# Altium footprint library TAG_CONNECT.PcbLib: 12 footprints
Each footprint in its own frame and in the unit in brackets; x right, y up, seen from the top. Pads: shape width x height; smd on the part's side, far side on the other; paste and mask are expansions set on the pad; w line width, h text height; cw(c..) or ccw(c..) is an arc to the next point about the centre after c.
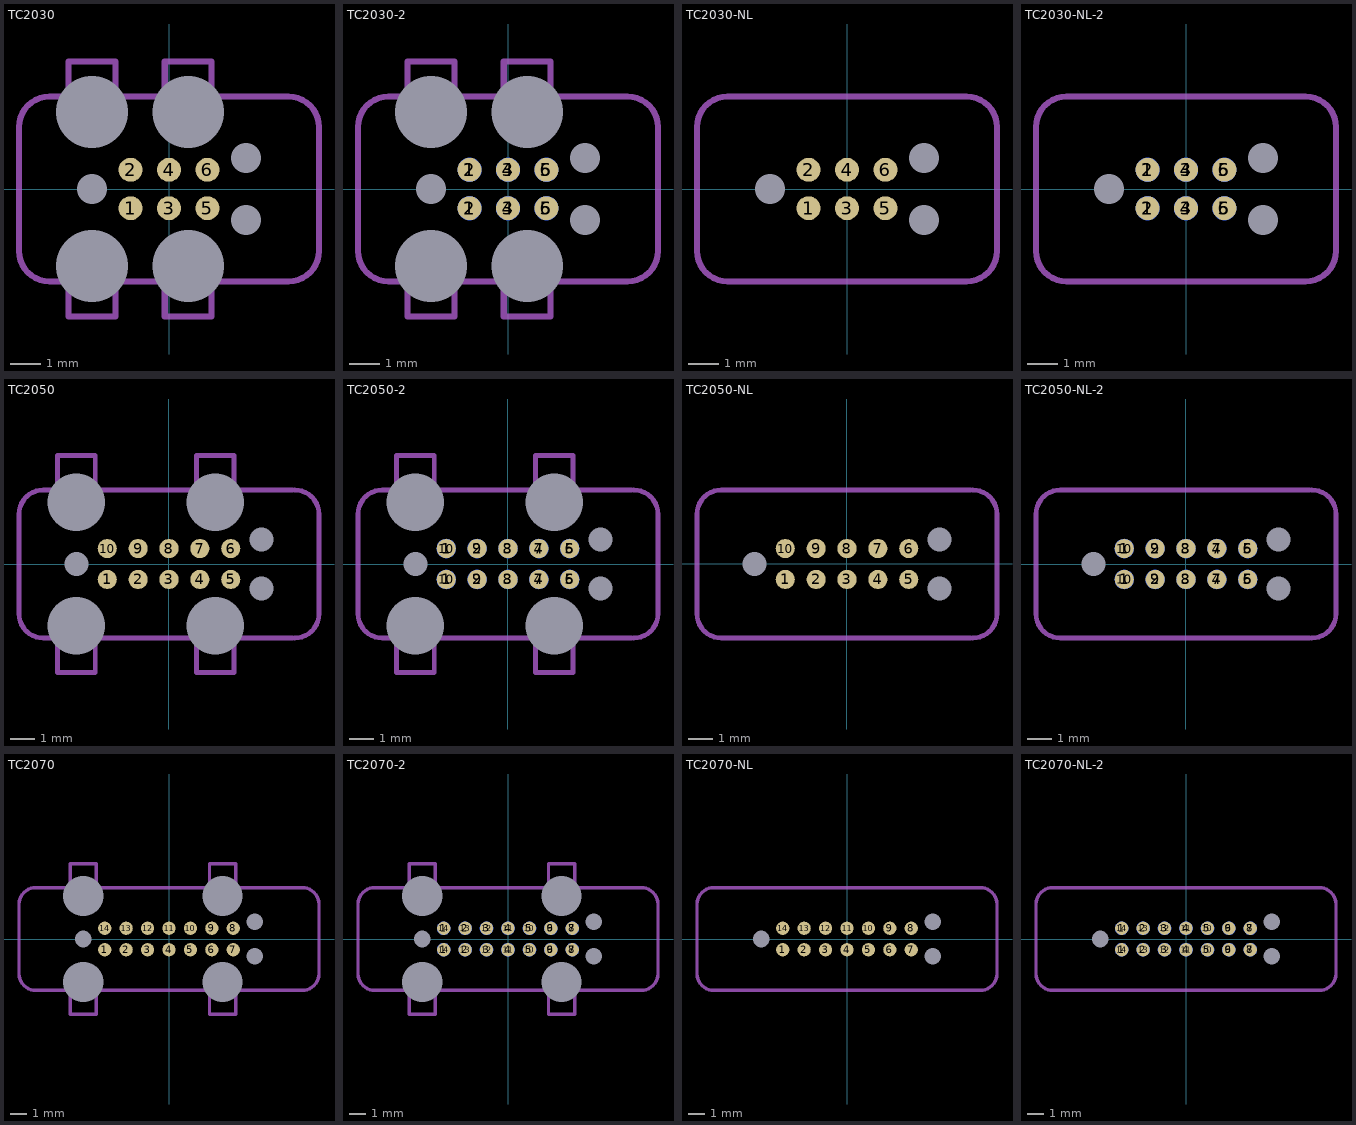
[diagram p0: the footprints below, top view; thin cyan lines are the x and y axes]

## TC2030 [mil] "Tag-Connect TC2030, 6 pin"
pads (13):
  round 31 smd paste-99999: 1(-50,-25) 2(-50,25) 3(0,-25) 4(0,25) 5(50,-25) 6(50,25)
  round 0 hole 93.5 unplated: M(-100,-100) M(-100,100) M(25,-100) M(25,100)
  round 0 hole 39 unplated: M(-100,0) M(100,-40) M(100,40)
Top Assembly:
  lines w7.87: -130.5,-120 -130.5,-166 -69.5,-166 -69.5,-120 ; -130.5,120 -130.5,166 -69.5,166 -69.5,120 ; -5.5,-120 -5.5,-166 55.5,-166 55.5,-120 ; -5.5,120 -5.5,166 55.5,166 55.5,120 ; -195,-80.63 ccw(c-155.63,-80.63) -155.63,-120 155.63,-120 ccw(c155.63,-80.63) 195,-80.63 195,80.63 ccw(c155.63,80.63) 155.63,120 -155.63,120 ccw(c-155.63,80.63) -195,80.63 -195,-80.63

## TC2030-2 [mil] "Tag-Connect TC2030, 6 pin, top and bottom"
pads (19):
  round 31 smd paste-99999: 1(-50,-25) 2(-50,25) 3(0,-25) 4(0,25) 5(50,-25) 6(50,25)
  round 31 smd far side paste-99999: 1(-50,25) 2(-50,-25) 3(0,25) 4(0,-25) 5(50,25) 6(50,-25)
  round 0 hole 93.5 unplated: M(-100,-100) M(-100,100) M(25,-100) M(25,100)
  round 0 hole 39 unplated: M(-100,0) M(100,-40) M(100,40)
Top Assembly:
  lines w7.87: -130.5,-120 -130.5,-166 -69.5,-166 -69.5,-120 ; -130.5,120 -130.5,166 -69.5,166 -69.5,120 ; -5.5,-120 -5.5,-166 55.5,-166 55.5,-120 ; -5.5,120 -5.5,166 55.5,166 55.5,120 ; -195,-80.63 ccw(c-155.63,-80.63) -155.63,-120 155.63,-120 ccw(c155.63,-80.63) 195,-80.63 195,80.63 ccw(c155.63,80.63) 155.63,120 -155.63,120 ccw(c-155.63,80.63) -195,80.63 -195,-80.63
Bottom Assembly (Mech12):
  lines w7.87: -130.5,-120 -130.5,-166 -69.5,-166 -69.5,-120 ; -130.5,120 -130.5,166 -69.5,166 -69.5,120 ; -5.5,-120 -5.5,-166 55.5,-166 55.5,-120 ; -5.5,120 -5.5,166 55.5,166 55.5,120 ; -195,-80.63 ccw(c-155.63,-80.63) -155.63,-120 155.63,-120 ccw(c155.63,-80.63) 195,-80.63 195,80.63 ccw(c155.63,80.63) 155.63,120 -155.63,120 ccw(c-155.63,80.63) -195,80.63 -195,-80.63
  text ".Designator" at 177.38,-17.84 h78.74

## TC2030-NL [mil] "Tag-Connect TC2030-NL, 6 pin, no-legs"
pads (9):
  round 31 smd paste-99999: 1(-50,-25) 2(-50,25) 3(0,-25) 4(0,25) 5(50,-25) 6(50,25)
  round 0 hole 39 unplated: M(-100,0) M(100,-40) M(100,40)
Top Assembly:
  lines w7.87: -195,-80.63 ccw(c-155.63,-80.63) -155.63,-120 155.63,-120 ccw(c155.63,-80.63) 195,-80.63 195,80.63 ccw(c155.63,80.63) 155.63,120 -155.63,120 ccw(c-155.63,80.63) -195,80.63 -195,-80.63

## TC2030-NL-2 [mil] "Tag-Connect TC2030-NL, 6 pin, no-legs, top and bottom"
pads (15):
  round 31 smd paste-99999: 1(-50,-25) 2(-50,25) 3(0,-25) 4(0,25) 5(50,-25) 6(50,25)
  round 31 smd far side paste-99999: 1(-50,25) 2(-50,-25) 3(0,25) 4(0,-25) 5(50,25) 6(50,-25)
  round 0 hole 39 unplated: M(-100,0) M(100,-40) M(100,40)
Top Assembly:
  lines w7.87: -195,-80.63 ccw(c-155.63,-80.63) -155.63,-120 155.63,-120 ccw(c155.63,-80.63) 195,-80.63 195,80.63 ccw(c155.63,80.63) 155.63,120 -155.63,120 ccw(c-155.63,80.63) -195,80.63 -195,-80.63
Bottom Assembly (Mech12):
  lines w7.87: -195,-80.63 ccw(c-155.63,-80.63) -155.63,-120 155.63,-120 ccw(c155.63,-80.63) 195,-80.63 195,80.63 ccw(c155.63,80.63) 155.63,120 -155.63,120 ccw(c-155.63,80.63) -195,80.63 -195,-80.63
  text ".Designator" at 177.38,-17.84 h78.74

## TC2050 [mil] "Tag-Connect TC2050, 10 pin"
pads (17):
  round 31 smd paste-99999: 1(-100,-25) 2(-50,-25) 3(0,-25) 4(50,-25) 5(100,-25) 6(100,25) 7(50,25) 8(0,25) 9(-50,25) 10(-100,25)
  round 0 hole 93.5 unplated: M(-150,-100) M(-150,100) M(75,-100) M(75,100)
  round 0 hole 39 unplated: M(-150,0) M(150,-40) M(150,40)
Top Assembly:
  lines w7.87: -180.5,-120 -180.5,-176 -119.5,-176 -119.5,-120 ; -180.5,120 -180.5,176 -119.5,176 -119.5,120 ; 44.5,-120 44.5,-176 105.5,-176 105.5,-120 ; 44.5,120 44.5,176 105.5,176 105.5,120 ; 200,-120 -203.54,-120 cw(c-203.54,-80.63) -242.91,-80.63 -242.91,80.63 cw(c-203.54,80.63) -203.54,120 200,120 ; 203.54,-120 ccw(c203.54,-80.63) 242.91,-80.63 242.91,80.63 ccw(c203.54,80.63) 203.54,120

## TC2050-2 [mil] "Tag-Connect TC2050, 10 pin, top and bottom"
pads (27):
  round 31 smd paste-99999: 1(-100,-25) 2(-50,-25) 3(0,-25) 4(50,-25) 5(100,-25) 6(100,25) 7(50,25) 8(0,25) 9(-50,25) 10(-100,25)
  round 31 smd far side paste-99999: 1(-100,25) 2(-50,25) 3(0,25) 4(50,25) 5(100,25) 6(100,-25) 7(50,-25) 8(0,-25) 9(-50,-25) 10(-100,-25)
  round 0 hole 93.5 unplated: M(-150,-100) M(-150,100) M(75,-100) M(75,100)
  round 0 hole 39 unplated: M(-150,0) M(150,-40) M(150,40)
Top Assembly:
  lines w7.87: -180.5,-120 -180.5,-176 -119.5,-176 -119.5,-120 ; -180.5,120 -180.5,176 -119.5,176 -119.5,120 ; 44.5,-120 44.5,-176 105.5,-176 105.5,-120 ; 44.5,120 44.5,176 105.5,176 105.5,120 ; 200,-120 -203.54,-120 cw(c-203.54,-80.63) -242.91,-80.63 -242.91,80.63 cw(c-203.54,80.63) -203.54,120 200,120 ; 203.54,-120 ccw(c203.54,-80.63) 242.91,-80.63 242.91,80.63 ccw(c203.54,80.63) 203.54,120
Bottom Assembly (Mech12):
  lines w7.87: -180.5,-120 -180.5,-176 -119.5,-176 -119.5,-120 ; -180.5,120 -180.5,176 -119.5,176 -119.5,120 ; 44.5,-120 44.5,-176 105.5,-176 105.5,-120 ; 44.5,120 44.5,176 105.5,176 105.5,120 ; 200,-120 -203.54,-120 cw(c-203.54,-80.63) -242.91,-80.63 -242.91,80.63 cw(c-203.54,80.63) -203.54,120 200,120 ; 203.54,-120 ccw(c203.54,-80.63) 242.91,-80.63 242.91,80.63 ccw(c203.54,80.63) 203.54,120
  text ".Designator" at 177.38,-17.84 h78.74

## TC2050-NL [mil] "Tag-Connect TC2050-NL, 10 pin, no-legs"
pads (13):
  round 31 smd paste-99999: 1(-100,-25) 2(-50,-25) 3(0,-25) 4(50,-25) 5(100,-25) 6(100,25) 7(50,25) 8(0,25) 9(-50,25) 10(-100,25)
  round 0 hole 39 unplated: M(-150,0) M(150,-40) M(150,40)
Top Assembly:
  lines w7.87: 200,-120 -203.54,-120 cw(c-203.54,-80.63) -242.91,-80.63 -242.91,80.63 cw(c-203.54,80.63) -203.54,120 200,120 ; 203.54,-120 ccw(c203.54,-80.63) 242.91,-80.63 242.91,80.63 ccw(c203.54,80.63) 203.54,120

## TC2050-NL-2 [mil] "Tag-Connect TC2050-NL, 10 pin, no-legs, top and bottom"
pads (23):
  round 31 smd paste-99999: 1(-100,-25) 2(-50,-25) 3(0,-25) 4(50,-25) 5(100,-25) 6(100,25) 7(50,25) 8(0,25) 9(-50,25) 10(-100,25)
  round 31 smd far side paste-99999: 1(-100,25) 2(-50,25) 3(0,25) 4(50,25) 5(100,25) 6(100,-25) 7(50,-25) 8(0,-25) 9(-50,-25) 10(-100,-25)
  round 0 hole 39 unplated: M(-150,0) M(150,-40) M(150,40)
Top Assembly:
  lines w7.87: 200,-120 -203.54,-120 cw(c-203.54,-80.63) -242.91,-80.63 -242.91,80.63 cw(c-203.54,80.63) -203.54,120 200,120 ; 203.54,-120 ccw(c203.54,-80.63) 242.91,-80.63 242.91,80.63 ccw(c203.54,80.63) 203.54,120
Bottom Assembly (Mech12):
  lines w7.87: 200,-120 -203.54,-120 cw(c-203.54,-80.63) -242.91,-80.63 -242.91,80.63 cw(c-203.54,80.63) -203.54,120 200,120 ; 203.54,-120 ccw(c203.54,-80.63) 242.91,-80.63 242.91,80.63 ccw(c203.54,80.63) 203.54,120
  text ".Designator" at 177.38,-17.84 h78.74

## TC2070 [mil] "Tag-Connect TC2070, 14 pin"
pads (21):
  round 31 smd paste-99999: 1(-150,-25) 2(-100,-25) 3(-50,-25) 4(0,-25) 5(50,-25) 6(100,-25) 7(150,-25) 8(150,25) 9(100,25) 10(50,25) 11(0,25) 12(-50,25) 13(-100,25) 14(-150,25)
  round 0 hole 93.5 unplated: M(-200,-100) M(-200,100) M(125,-100) M(125,100)
  round 0 hole 39 unplated: M(-200,0) M(200,-40) M(200,40)
Top Assembly:
  lines w7.87: -230.5,-120 -230.5,-176 -169.5,-176 -169.5,-120 ; -230.5,120 -230.5,176 -169.5,176 -169.5,120 ; 94.5,-120 94.5,-176 155.5,-176 155.5,-120 ; 94.5,120 94.5,176 155.5,176 155.5,120 ; -350,-80.63 ccw(c-310.63,-80.63) -310.63,-120 310.63,-120 ccw(c310.63,-80.63) 350,-80.63 350,80.63 ccw(c310.63,80.63) 310.63,120 -310.63,120 ccw(c-310.63,80.63) -350,80.63 -350,-80.63

## TC2070-2 [mil] "Tag-Connect TC2070, 14 pin, top and bottom"
pads (35):
  round 31 smd paste-99999: 1(-150,-25) 2(-100,-25) 3(-50,-25) 4(0,-25) 5(50,-25) 6(100,-25) 7(150,-25) 8(150,25) 9(100,25) 10(50,25) 11(0,25) 12(-50,25) 13(-100,25) 14(-150,25)
  round 31 smd far side paste-99999: 1(-150,25) 2(-100,25) 3(-50,25) 4(0,25) 5(50,25) 6(100,25) 7(150,25) 8(150,-25) 9(100,-25) 10(50,-25) 11(0,-25) 12(-50,-25) 13(-100,-25) 14(-150,-25)
  round 0 hole 93.5 unplated: M(-200,-100) M(-200,100) M(125,-100) M(125,100)
  round 0 hole 39 unplated: M(-200,0) M(200,-40) M(200,40)
Top Assembly:
  lines w7.87: -230.5,-120 -230.5,-176 -169.5,-176 -169.5,-120 ; -230.5,120 -230.5,176 -169.5,176 -169.5,120 ; 94.5,-120 94.5,-176 155.5,-176 155.5,-120 ; 94.5,120 94.5,176 155.5,176 155.5,120 ; -350,-80.63 ccw(c-310.63,-80.63) -310.63,-120 310.63,-120 ccw(c310.63,-80.63) 350,-80.63 350,80.63 ccw(c310.63,80.63) 310.63,120 -310.63,120 ccw(c-310.63,80.63) -350,80.63 -350,-80.63
Bottom Assembly (Mech12):
  lines w7.87: -230.5,-120 -230.5,-176 -169.5,-176 -169.5,-120 ; -230.5,120 -230.5,176 -169.5,176 -169.5,120 ; 94.5,-120 94.5,-176 155.5,-176 155.5,-120 ; 94.5,120 94.5,176 155.5,176 155.5,120 ; -350,-80.63 ccw(c-310.63,-80.63) -310.63,-120 310.63,-120 ccw(c310.63,-80.63) 350,-80.63 350,80.63 ccw(c310.63,80.63) 310.63,120 -310.63,120 ccw(c-310.63,80.63) -350,80.63 -350,-80.63
  text ".Designator" at 177.38,-17.84 h78.74

## TC2070-NL [mil] "Tag-Connect TC2070, 14 pin, no-legs"
pads (17):
  round 31 smd paste-99999: 1(-150,-25) 2(-100,-25) 3(-50,-25) 4(0,-25) 5(50,-25) 6(100,-25) 7(150,-25) 8(150,25) 9(100,25) 10(50,25) 11(0,25) 12(-50,25) 13(-100,25) 14(-150,25)
  round 0 hole 39 unplated: M(-200,0) M(200,-40) M(200,40)
Top Assembly:
  lines w7.87: -350,-80.63 ccw(c-310.63,-80.63) -310.63,-120 310.63,-120 ccw(c310.63,-80.63) 350,-80.63 350,80.63 ccw(c310.63,80.63) 310.63,120 -310.63,120 ccw(c-310.63,80.63) -350,80.63 -350,-80.63

## TC2070-NL-2 [mil] "Tag-Connect TC2070, 14 pin, no-legs, top and bottom"
pads (31):
  round 31 smd paste-99999: 1(-150,-25) 2(-100,-25) 3(-50,-25) 4(0,-25) 5(50,-25) 6(100,-25) 7(150,-25) 8(150,25) 9(100,25) 10(50,25) 11(0,25) 12(-50,25) 13(-100,25) 14(-150,25)
  round 31 smd far side paste-99999: 1(-150,25) 2(-100,25) 3(-50,25) 4(0,25) 5(50,25) 6(100,25) 7(150,25) 8(150,-25) 9(100,-25) 10(50,-25) 11(0,-25) 12(-50,-25) 13(-100,-25) 14(-150,-25)
  round 0 hole 39 unplated: M(-200,0) M(200,-40) M(200,40)
Top Assembly:
  lines w7.87: -350,-80.63 ccw(c-310.63,-80.63) -310.63,-120 310.63,-120 ccw(c310.63,-80.63) 350,-80.63 350,80.63 ccw(c310.63,80.63) 310.63,120 -310.63,120 ccw(c-310.63,80.63) -350,80.63 -350,-80.63
Bottom Assembly (Mech12):
  lines w7.87: -350,-80.63 ccw(c-310.63,-80.63) -310.63,-120 310.63,-120 ccw(c310.63,-80.63) 350,-80.63 350,80.63 ccw(c310.63,80.63) 310.63,120 -310.63,120 ccw(c-310.63,80.63) -350,80.63 -350,-80.63
  text ".Designator" at 177.38,-17.84 h78.74